# EAGLE library part 418127160907 (library Eagle_Wuerth_Elektronik_Switch)
WS-IC-2.54 mm small compact THT Dip Switch with top tape,14 pins,7 poles
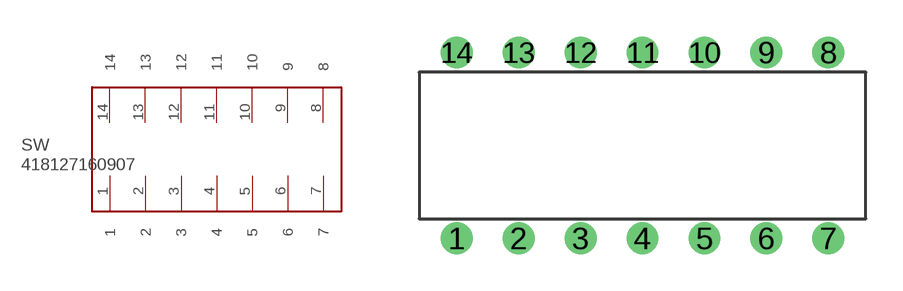
[diagram p52: symbol with the pads of 418127160907; footprint 418127160907]

Designator prefix SW

## 418127160907  [418127160907]
1  1
2  2
3  3
4  4
5  5
6  6
7  7
8  8
9  9
10  10
11  11
12  12
13  13
14  14

## Footprint 418127160907 (pad centres in mm)
WS-IC-2.54 mm small compact THT Dip Switch with top tape,14 pins,7 poles
drill 0.8: 1 0,-3.81; 2 2.54,-3.81; 3 5.08,-3.81; 4 7.62,-3.81; 5 10.16,-3.81; 6 12.7,-3.81; 7 15.24,-3.81; 8 15.24,3.81; 9 12.7,3.81; 10 10.16,3.81; 11 7.62,3.81; 12 5.08,3.81; 13 2.54,3.81; 14 0,3.81